# Altium schematic symbol library Converter_DCDC.SchLib: 544 symbols (part 1 of 6)
Pins are listed as number, name and electrical type; pins without a type are passive.

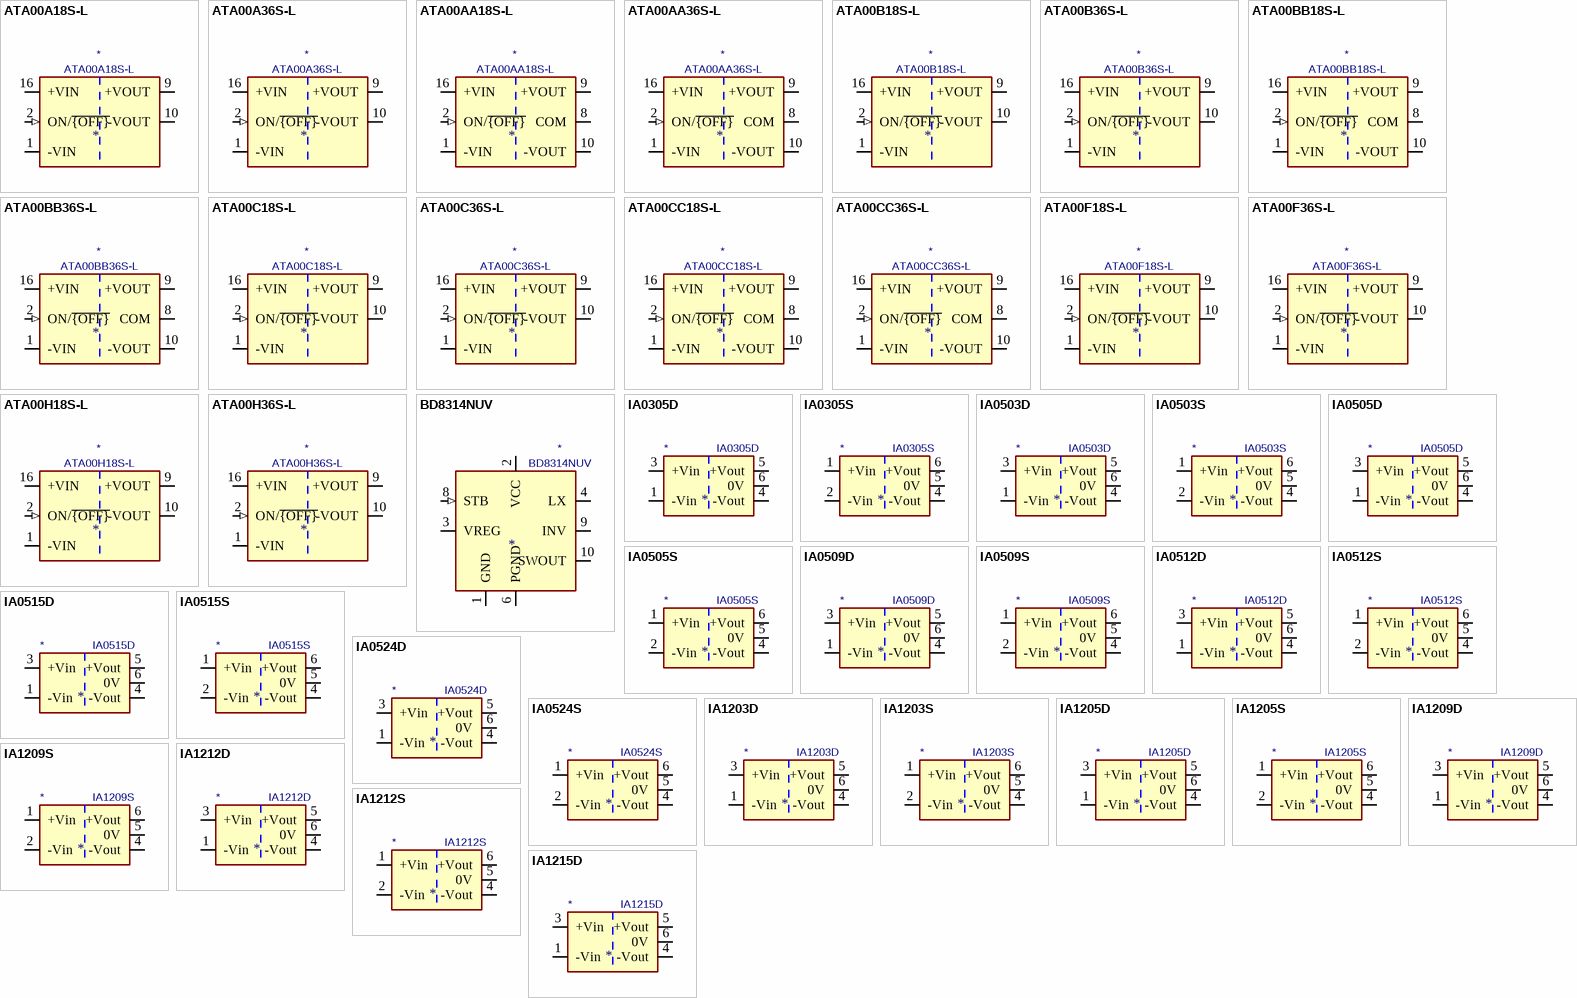
[diagram p0: symbols ATA00A18S-L to IA1215D]

## ATA00A18S-L
designator *  value ATA00A18S-L
ki_keywords: DC/DC converter single; ki_description: Artesyn 3W Isolated DC/DC Converter Module, 5V Output Voltage, 9-36V Input Voltage; ki_fp_filters: *Artesyn*ATA*SMD*; Footprint: Converter_DCDC:Converter_DCDC_Artesyn_ATA_SMD; Supplier: https://www.artesyn.com/power/assets/ata_series_ds_01apr2015_79c25814fd.pdf
footprint Converter_DCDC_Artesyn_ATA_SMD
pins: 1 -VIN (power), 2 ON/~{{OFF}} (in), 7 NC (in) hidden, 8 NC (in) hidden, 9 +VOUT (power), 10 -VOUT (power), 16 +VIN (power)

## ATA00A36S-L
designator *  value ATA00A36S-L
ki_keywords: DC/DC converter single; ki_description: Artesyn 3W Isolated DC/DC Converter Module, 5V Output Voltage, 18-75V Input Voltage; ki_fp_filters: *Artesyn*ATA*SMD*; Footprint: Converter_DCDC:Converter_DCDC_Artesyn_ATA_SMD; Supplier: https://www.artesyn.com/power/assets/ata_series_ds_01apr2015_79c25814fd.pdf
footprint Converter_DCDC_Artesyn_ATA_SMD
pins: 1 -VIN (power), 2 ON/~{{OFF}} (in), 7 NC (in) hidden, 8 NC (in) hidden, 9 +VOUT (power), 10 -VOUT (power), 16 +VIN (power)

## ATA00AA18S-L
designator *  value ATA00AA18S-L
ki_keywords: DC/DC converter dual; ki_description: Artesyn 3W Isolated DC/DC Converter Module, ±5V Output Voltage, 9-36V Input Voltage; ki_fp_filters: *Artesyn*ATA*SMD*; Footprint: Converter_DCDC:Converter_DCDC_Artesyn_ATA_SMD; Supplier: https://www.artesyn.com/power/assets/ata_series_ds_01apr2015_79c25814fd.pdf
footprint Converter_DCDC_Artesyn_ATA_SMD
pins: 1 -VIN (power), 2 ON/~{{OFF}} (in), 7 NC (in) hidden, 8 COM (power), 9 +VOUT (power), 10 -VOUT (power), 16 +VIN (power)

## ATA00AA36S-L
designator *  value ATA00AA36S-L
ki_keywords: DC/DC converter dual; ki_description: Artesyn 3W Isolated DC/DC Converter Module, ±5V Output Voltage, 18-75V Input Voltage; ki_fp_filters: *Artesyn*ATA*SMD*; Footprint: Converter_DCDC:Converter_DCDC_Artesyn_ATA_SMD; Supplier: https://www.artesyn.com/power/assets/ata_series_ds_01apr2015_79c25814fd.pdf
footprint Converter_DCDC_Artesyn_ATA_SMD
pins: 1 -VIN (power), 2 ON/~{{OFF}} (in), 7 NC (in) hidden, 8 COM (power), 9 +VOUT (power), 10 -VOUT (power), 16 +VIN (power)

## ATA00B18S-L
designator *  value ATA00B18S-L
ki_keywords: DC/DC converter single; ki_description: Artesyn 3W Isolated DC/DC Converter Module, 12V Output Voltage, 9-36V Input Voltage; ki_fp_filters: *Artesyn*ATA*SMD*; Footprint: Converter_DCDC:Converter_DCDC_Artesyn_ATA_SMD; Supplier: https://www.artesyn.com/power/assets/ata_series_ds_01apr2015_79c25814fd.pdf
footprint Converter_DCDC_Artesyn_ATA_SMD
pins: 1 -VIN (power), 2 ON/~{{OFF}} (in), 7 NC (in) hidden, 8 NC (in) hidden, 9 +VOUT (power), 10 -VOUT (power), 16 +VIN (power)

## ATA00B36S-L
designator *  value ATA00B36S-L
ki_keywords: DC/DC converter single; ki_description: Artesyn 3W Isolated DC/DC Converter Module, 12V Output Voltage, 18-75V Input Voltage; ki_fp_filters: *Artesyn*ATA*SMD*; Footprint: Converter_DCDC:Converter_DCDC_Artesyn_ATA_SMD; Supplier: https://www.artesyn.com/power/assets/ata_series_ds_01apr2015_79c25814fd.pdf
footprint Converter_DCDC_Artesyn_ATA_SMD
pins: 1 -VIN (power), 2 ON/~{{OFF}} (in), 7 NC (in) hidden, 8 NC (in) hidden, 9 +VOUT (power), 10 -VOUT (power), 16 +VIN (power)

## ATA00BB18S-L
designator *  value ATA00BB18S-L
ki_keywords: DC/DC converter dual; ki_description: Artesyn 3W Isolated DC/DC Converter Module, ±12V Output Voltage, 9-36V Input Voltage; ki_fp_filters: *Artesyn*ATA*SMD*; Footprint: Converter_DCDC:Converter_DCDC_Artesyn_ATA_SMD; Supplier: https://www.artesyn.com/power/assets/ata_series_ds_01apr2015_79c25814fd.pdf
footprint Converter_DCDC_Artesyn_ATA_SMD
pins: 1 -VIN (power), 2 ON/~{{OFF}} (in), 7 NC (in) hidden, 8 COM (power), 9 +VOUT (power), 10 -VOUT (power), 16 +VIN (power)

## ATA00BB36S-L
designator *  value ATA00BB36S-L
ki_keywords: DC/DC converter dual; ki_description: Artesyn 3W Isolated DC/DC Converter Module, ±12V Output Voltage, 18-75V Input Voltage; ki_fp_filters: *Artesyn*ATA*SMD*; Footprint: Converter_DCDC:Converter_DCDC_Artesyn_ATA_SMD; Supplier: https://www.artesyn.com/power/assets/ata_series_ds_01apr2015_79c25814fd.pdf
footprint Converter_DCDC_Artesyn_ATA_SMD
pins: 1 -VIN (power), 2 ON/~{{OFF}} (in), 7 NC (in) hidden, 8 COM (power), 9 +VOUT (power), 10 -VOUT (power), 16 +VIN (power)

## ATA00C18S-L
designator *  value ATA00C18S-L
ki_keywords: DC/DC converter single; ki_description: Artesyn 3W Isolated DC/DC Converter Module, 15V Output Voltage, 9-36V Input Voltage; ki_fp_filters: *Artesyn*ATA*SMD*; Footprint: Converter_DCDC:Converter_DCDC_Artesyn_ATA_SMD; Supplier: https://www.artesyn.com/power/assets/ata_series_ds_01apr2015_79c25814fd.pdf
footprint Converter_DCDC_Artesyn_ATA_SMD
pins: 1 -VIN (power), 2 ON/~{{OFF}} (in), 7 NC (in) hidden, 8 NC (in) hidden, 9 +VOUT (power), 10 -VOUT (power), 16 +VIN (power)

## ATA00C36S-L
designator *  value ATA00C36S-L
ki_keywords: DC/DC converter single; ki_description: Artesyn 3W Isolated DC/DC Converter Module, 15V Output Voltage, 18-75V Input Voltage; ki_fp_filters: *Artesyn*ATA*SMD*; Footprint: Converter_DCDC:Converter_DCDC_Artesyn_ATA_SMD; Supplier: https://www.artesyn.com/power/assets/ata_series_ds_01apr2015_79c25814fd.pdf
footprint Converter_DCDC_Artesyn_ATA_SMD
pins: 1 -VIN (power), 2 ON/~{{OFF}} (in), 7 NC (in) hidden, 8 NC (in) hidden, 9 +VOUT (power), 10 -VOUT (power), 16 +VIN (power)

## ATA00CC18S-L
designator *  value ATA00CC18S-L
ki_keywords: DC/DC converter dual; ki_description: Artesyn 3W Isolated DC/DC Converter Module, ±15V Output Voltage, 9-36V Input Voltage; ki_fp_filters: *Artesyn*ATA*SMD*; Footprint: Converter_DCDC:Converter_DCDC_Artesyn_ATA_SMD; Supplier: https://www.artesyn.com/power/assets/ata_series_ds_01apr2015_79c25814fd.pdf
footprint Converter_DCDC_Artesyn_ATA_SMD
pins: 1 -VIN (power), 2 ON/~{{OFF}} (in), 7 NC (in) hidden, 8 COM (power), 9 +VOUT (power), 10 -VOUT (power), 16 +VIN (power)

## ATA00CC36S-L
designator *  value ATA00CC36S-L
ki_keywords: DC/DC converter dual; ki_description: Artesyn 3W Isolated DC/DC Converter Module, ±15V Output Voltage, 18-75V Input Voltage; ki_fp_filters: *Artesyn*ATA*SMD*; Footprint: Converter_DCDC:Converter_DCDC_Artesyn_ATA_SMD; Supplier: https://www.artesyn.com/power/assets/ata_series_ds_01apr2015_79c25814fd.pdf
footprint Converter_DCDC_Artesyn_ATA_SMD
pins: 1 -VIN (power), 2 ON/~{{OFF}} (in), 7 NC (in) hidden, 8 COM (power), 9 +VOUT (power), 10 -VOUT (power), 16 +VIN (power)

## ATA00F18S-L
designator *  value ATA00F18S-L
ki_keywords: DC/DC converter single; ki_description: Artesyn 2W Isolated DC/DC Converter Module, 3.3V Output Voltage, 9-36V Input Voltage; ki_fp_filters: *Artesyn*ATA*SMD*; Footprint: Converter_DCDC:Converter_DCDC_Artesyn_ATA_SMD; Supplier: https://www.artesyn.com/power/assets/ata_series_ds_01apr2015_79c25814fd.pdf
footprint Converter_DCDC_Artesyn_ATA_SMD
pins: 1 -VIN (power), 2 ON/~{{OFF}} (in), 7 NC (in) hidden, 8 NC (in) hidden, 9 +VOUT (power), 10 -VOUT (power), 16 +VIN (power)

## ATA00F36S-L
designator *  value ATA00F36S-L
ki_keywords: DC/DC converter single; ki_description: Artesyn 2W Isolated DC/DC Converter Module, 3.3V Output Voltage, 18-75V Input Voltage; ki_fp_filters: *Artesyn*ATA*SMD*; Footprint: Converter_DCDC:Converter_DCDC_Artesyn_ATA_SMD; Supplier: https://www.artesyn.com/power/assets/ata_series_ds_01apr2015_79c25814fd.pdf
footprint Converter_DCDC_Artesyn_ATA_SMD
pins: 1 -VIN (power), 2 ON/~{{OFF}} (in), 7 NC (in) hidden, 8 NC (in) hidden, 9 +VOUT (power), 10 -VOUT (power), 16 +VIN (power)

## ATA00H18S-L
designator *  value ATA00H18S-L
ki_keywords: DC/DC converter single; ki_description: Artesyn 3W Isolated DC/DC Converter Module, 24V Output Voltage, 9-36V Input Voltage; ki_fp_filters: *Artesyn*ATA*SMD*; Footprint: Converter_DCDC:Converter_DCDC_Artesyn_ATA_SMD; Supplier: https://www.artesyn.com/power/assets/ata_series_ds_01apr2015_79c25814fd.pdf
footprint Converter_DCDC_Artesyn_ATA_SMD
pins: 1 -VIN (power), 2 ON/~{{OFF}} (in), 7 NC (in) hidden, 8 NC (in) hidden, 9 +VOUT (power), 10 -VOUT (power), 16 +VIN (power)

## ATA00H36S-L
designator *  value ATA00H36S-L
ki_keywords: DC/DC converter single; ki_description: Artesyn 3W Isolated DC/DC Converter Module, 24V Output Voltage, 18-75V Input Voltage; ki_fp_filters: *Artesyn*ATA*SMD*; Footprint: Converter_DCDC:Converter_DCDC_Artesyn_ATA_SMD; Supplier: https://www.artesyn.com/power/assets/ata_series_ds_01apr2015_79c25814fd.pdf
footprint Converter_DCDC_Artesyn_ATA_SMD
pins: 1 -VIN (power), 2 ON/~{{OFF}} (in), 7 NC (in) hidden, 8 NC (in) hidden, 9 +VOUT (power), 10 -VOUT (power), 16 +VIN (power)

## BD8314NUV
designator *  value BD8314NUV
ki_keywords: DCDC converter; ki_description: 3.0V to 12V, Integrated 2.5A MOSFET 1ch Boost Converter, VSON-10; ki_fp_filters: VSON*1EP*3x3mm*P0.5mm*; Footprint: Package_SON:VSON-10-1EP_3x3mm_P0.5mm_EP1.2x2mm; Supplier: http://rohmfs.rohm.com/en/products/databook/datasheet/ic/power/switching_regulator/bd8314nuv-e.pdf
footprint VSON-10-1EP_3x3mm_P0.5mm_EP1.2x2mm
pins: 1 GND (power), 2 VCC (power), 3 VREG, 4 LX, 5 LX hidden, 6 PGND (power), 7 PGND hidden, 8 STB (in), 9 INV, 10 SWOUT, 11 PGND hidden

## IA0305D
designator *  value IA0305D
ki_keywords: XP_POWER DC/DC isolated Converter module; ki_description: XP Power 1W, 1000 VDC Isolated DC/DC Converter Module, Dual Output Voltage ±5V, ±100mA, 3.3V Input Voltage, DIP; ki_fp_filters: *XP?POWER?IAxxxxD*; Footprint: Converter_DCDC:Converter_DCDC_XP_POWER-IAxxxxD_THT; Supplier: https://www.xppower.com/pdfs/SF_IA.pdf
footprint Converter_DCDC_XP_POWER-IAxxxxD_THT
pins: 1 -Vin (power), 2 NC (in) hidden, 3 +Vin (power), 4 -Vout (power), 5 +Vout (power), 6 0V (power)

## IA0305S
designator *  value IA0305S
ki_keywords: XP_POWER DC/DC isolated Converter module; ki_description: XP Power 1W, 1000 VDC Isolated DC/DC Converter Module, Dual Output Voltage ±5V, ±100mA, 3.3V Input Voltage, SIP; ki_fp_filters: *XP?POWER?IAxxxxS*; Footprint: Converter_DCDC:Converter_DCDC_XP_POWER-IAxxxxS_THT; Supplier: https://www.xppower.com/pdfs/SF_IA.pdf
footprint Converter_DCDC_XP_POWER-IAxxxxS_THT
pins: 1 +Vin (power), 2 -Vin (power), 4 -Vout (power), 5 0V (power), 6 +Vout (power)

## IA0503D
designator *  value IA0503D
ki_keywords: XP_POWER DC/DC isolated Converter module; ki_description: XP Power 1W, 1000 VDC Isolated DC/DC Converter Module, Dual Output Voltage ±3.3V, ±151mA, 5V Input Voltage, DIP; ki_fp_filters: *XP?POWER?IAxxxxD*; Footprint: Converter_DCDC:Converter_DCDC_XP_POWER-IAxxxxD_THT; Supplier: https://www.xppower.com/pdfs/SF_IA.pdf
footprint Converter_DCDC_XP_POWER-IAxxxxD_THT
pins: 1 -Vin (power), 2 NC (in) hidden, 3 +Vin (power), 4 -Vout (power), 5 +Vout (power), 6 0V (power)

## IA0503S
designator *  value IA0503S
ki_keywords: XP_POWER DC/DC isolated Converter module; ki_description: XP Power 1W, 1000 VDC Isolated DC/DC Converter Module, Dual Output Voltage ±3.3V, ±151mA, 5V Input Voltage, SIP; ki_fp_filters: *XP?POWER?IAxxxxS*; Footprint: Converter_DCDC:Converter_DCDC_XP_POWER-IAxxxxS_THT; Supplier: https://www.xppower.com/pdfs/SF_IA.pdf
footprint Converter_DCDC_XP_POWER-IAxxxxS_THT
pins: 1 +Vin (power), 2 -Vin (power), 4 -Vout (power), 5 0V (power), 6 +Vout (power)

## IA0505D
designator *  value IA0505D
ki_keywords: XP_POWER DC/DC isolated Converter module; ki_description: XP Power 1W, 1000 VDC Isolated DC/DC Converter Module, Dual Output Voltage ±5V, ±100mA, 5V Input Voltage, DIP; ki_fp_filters: *XP?POWER?IAxxxxD*; Footprint: Converter_DCDC:Converter_DCDC_XP_POWER-IAxxxxD_THT; Supplier: https://www.xppower.com/pdfs/SF_IA.pdf
footprint Converter_DCDC_XP_POWER-IAxxxxD_THT
pins: 1 -Vin (power), 2 NC (in) hidden, 3 +Vin (power), 4 -Vout (power), 5 +Vout (power), 6 0V (power)

## IA0505S
designator *  value IA0505S
ki_keywords: XP_POWER DC/DC isolated Converter module; ki_description: XP Power 1W, 1000 VDC Isolated DC/DC Converter Module, Dual Output Voltage ±5V, ±100mA, 5V Input Voltage, SIP; ki_fp_filters: *XP?POWER?IAxxxxS*; Footprint: Converter_DCDC:Converter_DCDC_XP_POWER-IAxxxxS_THT; Supplier: https://www.xppower.com/pdfs/SF_IA.pdf
footprint Converter_DCDC_XP_POWER-IAxxxxS_THT
pins: 1 +Vin (power), 2 -Vin (power), 4 -Vout (power), 5 0V (power), 6 +Vout (power)

## IA0509D
designator *  value IA0509D
ki_keywords: XP_POWER DC/DC isolated Converter module; ki_description: XP Power 1W, 1000 VDC Isolated DC/DC Converter Module, Dual Output Voltage ±9V, ±55mA, 5V Input Voltage, DIP; ki_fp_filters: *XP?POWER?IAxxxxD*; Footprint: Converter_DCDC:Converter_DCDC_XP_POWER-IAxxxxD_THT; Supplier: https://www.xppower.com/pdfs/SF_IA.pdf
footprint Converter_DCDC_XP_POWER-IAxxxxD_THT
pins: 1 -Vin (power), 2 NC (in) hidden, 3 +Vin (power), 4 -Vout (power), 5 +Vout (power), 6 0V (power)

## IA0509S
designator *  value IA0509S
ki_keywords: XP_POWER DC/DC isolated Converter module; ki_description: XP Power 1W, 1000 VDC Isolated DC/DC Converter Module, Dual Output Voltage ±9V, ±55mA, 5V Input Voltage, SIP; ki_fp_filters: *XP?POWER?IAxxxxS*; Footprint: Converter_DCDC:Converter_DCDC_XP_POWER-IAxxxxS_THT; Supplier: https://www.xppower.com/pdfs/SF_IA.pdf
footprint Converter_DCDC_XP_POWER-IAxxxxS_THT
pins: 1 +Vin (power), 2 -Vin (power), 4 -Vout (power), 5 0V (power), 6 +Vout (power)

## IA0512D
designator *  value IA0512D
ki_keywords: XP_POWER DC/DC isolated Converter module; ki_description: XP Power 1W, 1000 VDC Isolated DC/DC Converter Module, Dual Output Voltage ±12V, ±42mA, 5V Input Voltage, DIP; ki_fp_filters: *XP?POWER?IAxxxxD*; Footprint: Converter_DCDC:Converter_DCDC_XP_POWER-IAxxxxD_THT; Supplier: https://www.xppower.com/pdfs/SF_IA.pdf
footprint Converter_DCDC_XP_POWER-IAxxxxD_THT
pins: 1 -Vin (power), 2 NC (in) hidden, 3 +Vin (power), 4 -Vout (power), 5 +Vout (power), 6 0V (power)

## IA0512S
designator *  value IA0512S
ki_keywords: XP_POWER DC/DC isolated Converter module; ki_description: XP Power 1W, 1000 VDC Isolated DC/DC Converter Module, Dual Output Voltage ±12V, ±42mA, 5V Input Voltage, SIP; ki_fp_filters: *XP?POWER?IAxxxxS*; Footprint: Converter_DCDC:Converter_DCDC_XP_POWER-IAxxxxS_THT; Supplier: https://www.xppower.com/pdfs/SF_IA.pdf
footprint Converter_DCDC_XP_POWER-IAxxxxS_THT
pins: 1 +Vin (power), 2 -Vin (power), 4 -Vout (power), 5 0V (power), 6 +Vout (power)

## IA0515D
designator *  value IA0515D
ki_keywords: XP_POWER DC/DC isolated Converter module; ki_description: XP Power 1W, 1000 VDC Isolated DC/DC Converter Module, Dual Output Voltage ±15V, ±33mA, 5V Input Voltage, DIP; ki_fp_filters: *XP?POWER?IAxxxxD*; Footprint: Converter_DCDC:Converter_DCDC_XP_POWER-IAxxxxD_THT; Supplier: https://www.xppower.com/pdfs/SF_IA.pdf
footprint Converter_DCDC_XP_POWER-IAxxxxD_THT
pins: 1 -Vin (power), 2 NC (in) hidden, 3 +Vin (power), 4 -Vout (power), 5 +Vout (power), 6 0V (power)

## IA0515S
designator *  value IA0515S
ki_keywords: XP_POWER DC/DC isolated Converter module; ki_description: XP Power 1W, 1000 VDC Isolated DC/DC Converter Module, Dual Output Voltage ±15V, ±33mA, 5V Input Voltage, SIP; ki_fp_filters: *XP?POWER?IAxxxxS*; Footprint: Converter_DCDC:Converter_DCDC_XP_POWER-IAxxxxS_THT; Supplier: https://www.xppower.com/pdfs/SF_IA.pdf
footprint Converter_DCDC_XP_POWER-IAxxxxS_THT
pins: 1 +Vin (power), 2 -Vin (power), 4 -Vout (power), 5 0V (power), 6 +Vout (power)

## IA0524D
designator *  value IA0524D
ki_keywords: XP_POWER DC/DC isolated Converter module; ki_description: XP Power 1W, 1000 VDC Isolated DC/DC Converter Module, Dual Output Voltage ±24V, ±21mA, 5V Input Voltage, DIP; ki_fp_filters: *XP?POWER?IAxxxxD*; Footprint: Converter_DCDC:Converter_DCDC_XP_POWER-IAxxxxD_THT; Supplier: https://www.xppower.com/pdfs/SF_IA.pdf
footprint Converter_DCDC_XP_POWER-IAxxxxD_THT
pins: 1 -Vin (power), 2 NC (in) hidden, 3 +Vin (power), 4 -Vout (power), 5 +Vout (power), 6 0V (power)

## IA0524S
designator *  value IA0524S
ki_keywords: XP_POWER DC/DC isolated Converter module; ki_description: XP Power 1W, 1000 VDC Isolated DC/DC Converter Module, Dual Output Voltage ±24V, ±21mA, 5V Input Voltage, SIP; ki_fp_filters: *XP?POWER?IAxxxxS*; Footprint: Converter_DCDC:Converter_DCDC_XP_POWER-IAxxxxS_THT; Supplier: https://www.xppower.com/pdfs/SF_IA.pdf
footprint Converter_DCDC_XP_POWER-IAxxxxS_THT
pins: 1 +Vin (power), 2 -Vin (power), 4 -Vout (power), 5 0V (power), 6 +Vout (power)

## IA1203D
designator *  value IA1203D
ki_keywords: XP_POWER DC/DC isolated Converter module; ki_description: XP Power 1W, 1000 VDC Isolated DC/DC Converter Module, Dual Output Voltage ±3.3V, ±151mA, 12V Input Voltage, DIP; ki_fp_filters: *XP?POWER?IAxxxxD*; Footprint: Converter_DCDC:Converter_DCDC_XP_POWER-IAxxxxD_THT; Supplier: https://www.xppower.com/pdfs/SF_IA.pdf
footprint Converter_DCDC_XP_POWER-IAxxxxD_THT
pins: 1 -Vin (power), 2 NC (in) hidden, 3 +Vin (power), 4 -Vout (power), 5 +Vout (power), 6 0V (power)

## IA1203S
designator *  value IA1203S
ki_keywords: XP_POWER DC/DC isolated Converter module; ki_description: XP Power 1W, 1000 VDC Isolated DC/DC Converter Module, Dual Output Voltage ±3.3V, ±151mA, 12V Input Voltage, SIP; ki_fp_filters: *XP?POWER?IAxxxxS*; Footprint: Converter_DCDC:Converter_DCDC_XP_POWER-IAxxxxS_THT; Supplier: https://www.xppower.com/pdfs/SF_IA.pdf
footprint Converter_DCDC_XP_POWER-IAxxxxS_THT
pins: 1 +Vin (power), 2 -Vin (power), 4 -Vout (power), 5 0V (power), 6 +Vout (power)

## IA1205D
designator *  value IA1205D
ki_keywords: XP_POWER DC/DC isolated Converter module; ki_description: XP Power 1W, 1000 VDC Isolated DC/DC Converter Module, Dual Output Voltage ±5V, ±100mA, 12V Input Voltage, DIP; ki_fp_filters: *XP?POWER?IAxxxxD*; Footprint: Converter_DCDC:Converter_DCDC_XP_POWER-IAxxxxD_THT; Supplier: https://www.xppower.com/pdfs/SF_IA.pdf
footprint Converter_DCDC_XP_POWER-IAxxxxD_THT
pins: 1 -Vin (power), 2 NC (in) hidden, 3 +Vin (power), 4 -Vout (power), 5 +Vout (power), 6 0V (power)

## IA1205S
designator *  value IA1205S
ki_keywords: XP_POWER DC/DC isolated Converter module; ki_description: XP Power 1W, 1000 VDC Isolated DC/DC Converter Module, Dual Output Voltage ±5V, ±100mA, 12V Input Voltage, SIP; ki_fp_filters: *XP?POWER?IAxxxxS*; Footprint: Converter_DCDC:Converter_DCDC_XP_POWER-IAxxxxS_THT; Supplier: https://www.xppower.com/pdfs/SF_IA.pdf
footprint Converter_DCDC_XP_POWER-IAxxxxS_THT
pins: 1 +Vin (power), 2 -Vin (power), 4 -Vout (power), 5 0V (power), 6 +Vout (power)

## IA1209D
designator *  value IA1209D
ki_keywords: XP_POWER DC/DC isolated Converter module; ki_description: XP Power 1W, 1000 VDC Isolated DC/DC Converter Module, Dual Output Voltage ±9V, ±55mA, 12V Input Voltage, DIP; ki_fp_filters: *XP?POWER?IAxxxxD*; Footprint: Converter_DCDC:Converter_DCDC_XP_POWER-IAxxxxD_THT; Supplier: https://www.xppower.com/pdfs/SF_IA.pdf
footprint Converter_DCDC_XP_POWER-IAxxxxD_THT
pins: 1 -Vin (power), 2 NC (in) hidden, 3 +Vin (power), 4 -Vout (power), 5 +Vout (power), 6 0V (power)

## IA1209S
designator *  value IA1209S
ki_keywords: XP_POWER DC/DC isolated Converter module; ki_description: XP Power 1W, 1000 VDC Isolated DC/DC Converter Module, Dual Output Voltage ±9V, ±55mA, 12V Input Voltage, SIP; ki_fp_filters: *XP?POWER?IAxxxxS*; Footprint: Converter_DCDC:Converter_DCDC_XP_POWER-IAxxxxS_THT; Supplier: https://www.xppower.com/pdfs/SF_IA.pdf
footprint Converter_DCDC_XP_POWER-IAxxxxS_THT
pins: 1 +Vin (power), 2 -Vin (power), 4 -Vout (power), 5 0V (power), 6 +Vout (power)

## IA1212D
designator *  value IA1212D
ki_keywords: XP_POWER DC/DC isolated Converter module; ki_description: XP Power 1W, 1000 VDC Isolated DC/DC Converter Module, Dual Output Voltage ±12V, ±42mA, 12V Input Voltage, DIP; ki_fp_filters: *XP?POWER?IAxxxxD*; Footprint: Converter_DCDC:Converter_DCDC_XP_POWER-IAxxxxD_THT; Supplier: https://www.xppower.com/pdfs/SF_IA.pdf
footprint Converter_DCDC_XP_POWER-IAxxxxD_THT
pins: 1 -Vin (power), 2 NC (in) hidden, 3 +Vin (power), 4 -Vout (power), 5 +Vout (power), 6 0V (power)

## IA1212S
designator *  value IA1212S
ki_keywords: XP_POWER DC/DC isolated Converter module; ki_description: XP Power 1W, 1000 VDC Isolated DC/DC Converter Module, Dual Output Voltage ±12V, ±42mA, 12V Input Voltage, SIP; ki_fp_filters: *XP?POWER?IAxxxxS*; Footprint: Converter_DCDC:Converter_DCDC_XP_POWER-IAxxxxS_THT; Supplier: https://www.xppower.com/pdfs/SF_IA.pdf
footprint Converter_DCDC_XP_POWER-IAxxxxS_THT
pins: 1 +Vin (power), 2 -Vin (power), 4 -Vout (power), 5 0V (power), 6 +Vout (power)

## IA1215D
designator *  value IA1215D
ki_keywords: XP_POWER DC/DC isolated Converter module; ki_description: XP Power 1W, 1000 VDC Isolated DC/DC Converter Module, Dual Output Voltage ±15V, ±33mA, 12V Input Voltage, DIP; ki_fp_filters: *XP?POWER?IAxxxxD*; Footprint: Converter_DCDC:Converter_DCDC_XP_POWER-IAxxxxD_THT; Supplier: https://www.xppower.com/pdfs/SF_IA.pdf
footprint Converter_DCDC_XP_POWER-IAxxxxD_THT
pins: 1 -Vin (power), 2 NC (in) hidden, 3 +Vin (power), 4 -Vout (power), 5 +Vout (power), 6 0V (power)

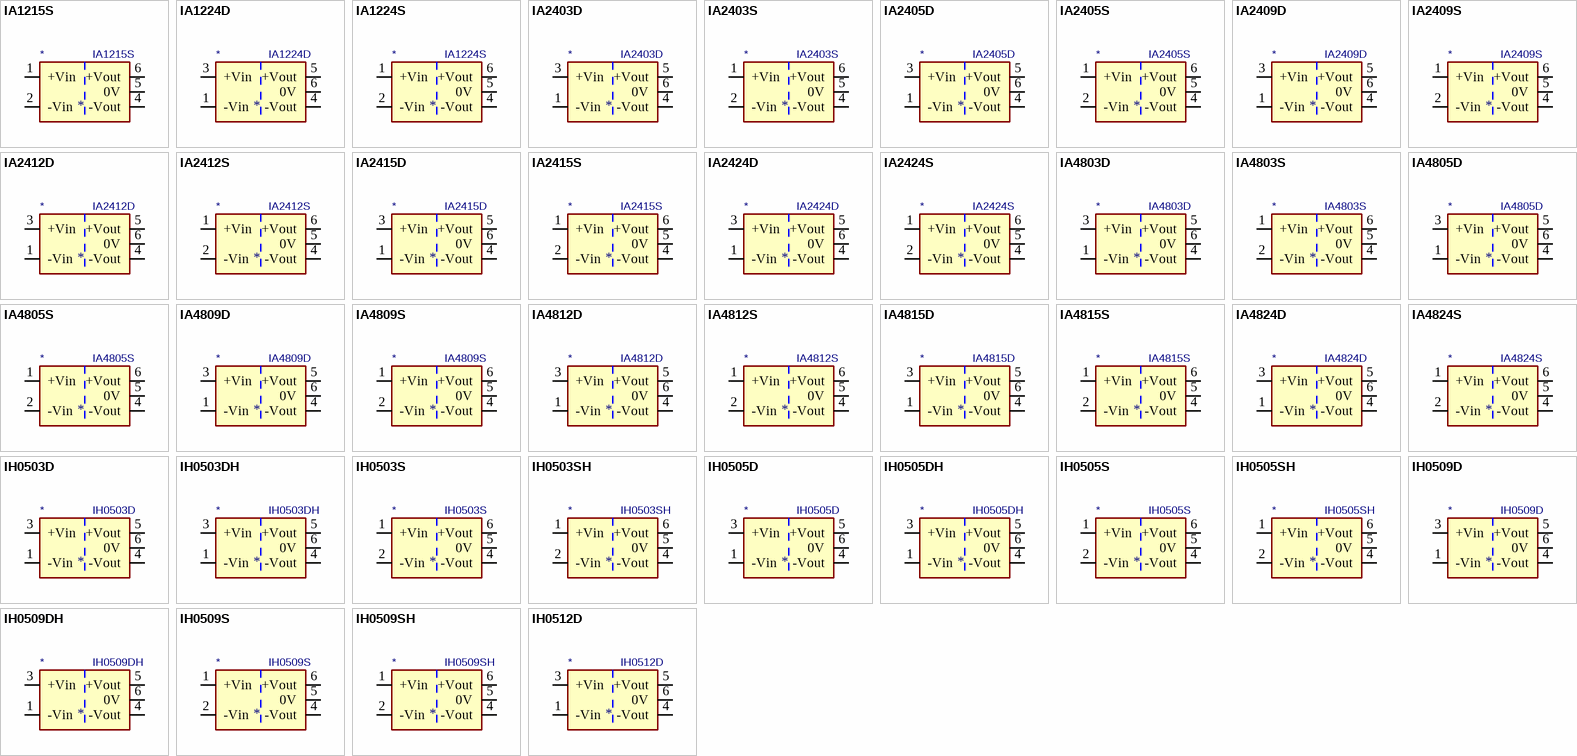
[diagram p1: symbols IA1215S to IH0512D]

## IA1215S
designator *  value IA1215S
ki_keywords: XP_POWER DC/DC isolated Converter module; ki_description: XP Power 1W, 1000 VDC Isolated DC/DC Converter Module, Dual Output Voltage ±15V, ±33mA, 12V Input Voltage, SIP; ki_fp_filters: *XP?POWER?IAxxxxS*; Footprint: Converter_DCDC:Converter_DCDC_XP_POWER-IAxxxxS_THT; Supplier: https://www.xppower.com/pdfs/SF_IA.pdf
footprint Converter_DCDC_XP_POWER-IAxxxxS_THT
pins: 1 +Vin (power), 2 -Vin (power), 4 -Vout (power), 5 0V (power), 6 +Vout (power)

## IA1224D
designator *  value IA1224D
ki_keywords: XP_POWER DC/DC isolated Converter module; ki_description: XP Power 1W, 1000 VDC Isolated DC/DC Converter Module, Dual Output Voltage ±24V, ±21mA, 12V Input Voltage, DIP; ki_fp_filters: *XP?POWER?IAxxxxD*; Footprint: Converter_DCDC:Converter_DCDC_XP_POWER-IAxxxxD_THT; Supplier: https://www.xppower.com/pdfs/SF_IA.pdf
footprint Converter_DCDC_XP_POWER-IAxxxxD_THT
pins: 1 -Vin (power), 2 NC (in) hidden, 3 +Vin (power), 4 -Vout (power), 5 +Vout (power), 6 0V (power)

## IA1224S
designator *  value IA1224S
ki_keywords: XP_POWER DC/DC isolated Converter module; ki_description: XP Power 1W, 1000 VDC Isolated DC/DC Converter Module, Dual Output Voltage ±24V, ±21mA, 12V Input Voltage, SIP; ki_fp_filters: *XP?POWER?IAxxxxS*; Footprint: Converter_DCDC:Converter_DCDC_XP_POWER-IAxxxxS_THT; Supplier: https://www.xppower.com/pdfs/SF_IA.pdf
footprint Converter_DCDC_XP_POWER-IAxxxxS_THT
pins: 1 +Vin (power), 2 -Vin (power), 4 -Vout (power), 5 0V (power), 6 +Vout (power)

## IA2403D
designator *  value IA2403D
ki_keywords: XP_POWER DC/DC isolated Converter module; ki_description: XP Power 1W, 1000 VDC Isolated DC/DC Converter Module, Dual Output Voltage ±3.3V, ±151mA, 24V Input Voltage, DIP; ki_fp_filters: *XP?POWER?IAxxxxD*; Footprint: Converter_DCDC:Converter_DCDC_XP_POWER-IAxxxxD_THT; Supplier: https://www.xppower.com/pdfs/SF_IA.pdf
footprint Converter_DCDC_XP_POWER-IAxxxxD_THT
pins: 1 -Vin (power), 2 NC (in) hidden, 3 +Vin (power), 4 -Vout (power), 5 +Vout (power), 6 0V (power)

## IA2403S
designator *  value IA2403S
ki_keywords: XP_POWER DC/DC isolated Converter module; ki_description: XP Power 1W, 1000 VDC Isolated DC/DC Converter Module, Dual Output Voltage ±3.3V, ±151mA, 24V Input Voltage, SIP; ki_fp_filters: *XP?POWER?IAxxxxS*; Footprint: Converter_DCDC:Converter_DCDC_XP_POWER-IAxxxxS_THT; Supplier: https://www.xppower.com/pdfs/SF_IA.pdf
footprint Converter_DCDC_XP_POWER-IAxxxxS_THT
pins: 1 +Vin (power), 2 -Vin (power), 4 -Vout (power), 5 0V (power), 6 +Vout (power)

## IA2405D
designator *  value IA2405D
ki_keywords: XP_POWER DC/DC isolated Converter module; ki_description: XP Power 1W, 1000 VDC Isolated DC/DC Converter Module, Dual Output Voltage ±5V, ±100mA, 24V Input Voltage, DIP; ki_fp_filters: *XP?POWER?IAxxxxD*; Footprint: Converter_DCDC:Converter_DCDC_XP_POWER-IAxxxxD_THT; Supplier: https://www.xppower.com/pdfs/SF_IA.pdf
footprint Converter_DCDC_XP_POWER-IAxxxxD_THT
pins: 1 -Vin (power), 2 NC (in) hidden, 3 +Vin (power), 4 -Vout (power), 5 +Vout (power), 6 0V (power)

## IA2405S
designator *  value IA2405S
ki_keywords: XP_POWER DC/DC isolated Converter module; ki_description: XP Power 1W, 1000 VDC Isolated DC/DC Converter Module, Dual Output Voltage ±5V, ±100mA, 24V Input Voltage, SIP; ki_fp_filters: *XP?POWER?IAxxxxS*; Footprint: Converter_DCDC:Converter_DCDC_XP_POWER-IAxxxxS_THT; Supplier: https://www.xppower.com/pdfs/SF_IA.pdf
footprint Converter_DCDC_XP_POWER-IAxxxxS_THT
pins: 1 +Vin (power), 2 -Vin (power), 4 -Vout (power), 5 0V (power), 6 +Vout (power)

## IA2409D
designator *  value IA2409D
ki_keywords: XP_POWER DC/DC isolated Converter module; ki_description: XP Power 1W, 1000 VDC Isolated DC/DC Converter Module, Dual Output Voltage ±9V, ±55mA, 24V Input Voltage, DIP; ki_fp_filters: *XP?POWER?IAxxxxD*; Footprint: Converter_DCDC:Converter_DCDC_XP_POWER-IAxxxxD_THT; Supplier: https://www.xppower.com/pdfs/SF_IA.pdf
footprint Converter_DCDC_XP_POWER-IAxxxxD_THT
pins: 1 -Vin (power), 2 NC (in) hidden, 3 +Vin (power), 4 -Vout (power), 5 +Vout (power), 6 0V (power)

## IA2409S
designator *  value IA2409S
ki_keywords: XP_POWER DC/DC isolated Converter module; ki_description: XP Power 1W, 1000 VDC Isolated DC/DC Converter Module, Dual Output Voltage ±9V, ±55mA, 24V Input Voltage, SIP; ki_fp_filters: *XP?POWER?IAxxxxS*; Footprint: Converter_DCDC:Converter_DCDC_XP_POWER-IAxxxxS_THT; Supplier: https://www.xppower.com/pdfs/SF_IA.pdf
footprint Converter_DCDC_XP_POWER-IAxxxxS_THT
pins: 1 +Vin (power), 2 -Vin (power), 4 -Vout (power), 5 0V (power), 6 +Vout (power)

## IA2412D
designator *  value IA2412D
ki_keywords: XP_POWER DC/DC isolated Converter module; ki_description: XP Power 1W, 1000 VDC Isolated DC/DC Converter Module, Dual Output Voltage ±12V, ±42mA, 24V Input Voltage, DIP; ki_fp_filters: *XP?POWER?IAxxxxD*; Footprint: Converter_DCDC:Converter_DCDC_XP_POWER-IAxxxxD_THT; Supplier: https://www.xppower.com/pdfs/SF_IA.pdf
footprint Converter_DCDC_XP_POWER-IAxxxxD_THT
pins: 1 -Vin (power), 2 NC (in) hidden, 3 +Vin (power), 4 -Vout (power), 5 +Vout (power), 6 0V (power)

## IA2412S
designator *  value IA2412S
ki_keywords: XP_POWER DC/DC isolated Converter module; ki_description: XP Power 1W, 1000 VDC Isolated DC/DC Converter Module, Dual Output Voltage ±12V, ±42mA, 24V Input Voltage, SIP; ki_fp_filters: *XP?POWER?IAxxxxS*; Footprint: Converter_DCDC:Converter_DCDC_XP_POWER-IAxxxxS_THT; Supplier: https://www.xppower.com/pdfs/SF_IA.pdf
footprint Converter_DCDC_XP_POWER-IAxxxxS_THT
pins: 1 +Vin (power), 2 -Vin (power), 4 -Vout (power), 5 0V (power), 6 +Vout (power)

## IA2415D
designator *  value IA2415D
ki_keywords: XP_POWER DC/DC isolated Converter module; ki_description: XP Power 1W, 1000 VDC Isolated DC/DC Converter Module, Dual Output Voltage ±15V, ±33mA, 24V Input Voltage, DIP; ki_fp_filters: *XP?POWER?IAxxxxD*; Footprint: Converter_DCDC:Converter_DCDC_XP_POWER-IAxxxxD_THT; Supplier: https://www.xppower.com/pdfs/SF_IA.pdf
footprint Converter_DCDC_XP_POWER-IAxxxxD_THT
pins: 1 -Vin (power), 2 NC (in) hidden, 3 +Vin (power), 4 -Vout (power), 5 +Vout (power), 6 0V (power)

## IA2415S
designator *  value IA2415S
ki_keywords: XP_POWER DC/DC isolated Converter module; ki_description: XP Power 1W, 1000 VDC Isolated DC/DC Converter Module, Dual Output Voltage ±15V, ±33mA, 24V Input Voltage, SIP; ki_fp_filters: *XP?POWER?IAxxxxS*; Footprint: Converter_DCDC:Converter_DCDC_XP_POWER-IAxxxxS_THT; Supplier: https://www.xppower.com/pdfs/SF_IA.pdf
footprint Converter_DCDC_XP_POWER-IAxxxxS_THT
pins: 1 +Vin (power), 2 -Vin (power), 4 -Vout (power), 5 0V (power), 6 +Vout (power)

## IA2424D
designator *  value IA2424D
ki_keywords: XP_POWER DC/DC isolated Converter module; ki_description: XP Power 1W, 1000 VDC Isolated DC/DC Converter Module, Dual Output Voltage ±24V, ±21mA, 24V Input Voltage, DIP; ki_fp_filters: *XP?POWER?IAxxxxD*; Footprint: Converter_DCDC:Converter_DCDC_XP_POWER-IAxxxxD_THT; Supplier: https://www.xppower.com/pdfs/SF_IA.pdf
footprint Converter_DCDC_XP_POWER-IAxxxxD_THT
pins: 1 -Vin (power), 2 NC (in) hidden, 3 +Vin (power), 4 -Vout (power), 5 +Vout (power), 6 0V (power)

## IA2424S
designator *  value IA2424S
ki_keywords: XP_POWER DC/DC isolated Converter module; ki_description: XP Power 1W, 1000 VDC Isolated DC/DC Converter Module, Dual Output Voltage ±24V, ±21mA, 24V Input Voltage, SIP; ki_fp_filters: *XP?POWER?IAxxxxS*; Footprint: Converter_DCDC:Converter_DCDC_XP_POWER-IAxxxxS_THT; Supplier: https://www.xppower.com/pdfs/SF_IA.pdf
footprint Converter_DCDC_XP_POWER-IAxxxxS_THT
pins: 1 +Vin (power), 2 -Vin (power), 4 -Vout (power), 5 0V (power), 6 +Vout (power)

## IA4803D
designator *  value IA4803D
ki_keywords: XP_POWER DC/DC isolated Converter module; ki_description: XP Power 1W, 1000 VDC Isolated DC/DC Converter Module, Dual Output Voltage ±3.3V, ±151mA, 48V Input Voltage, DIP; ki_fp_filters: *XP?POWER?IA48xxD*; Footprint: Converter_DCDC:Converter_DCDC_XP_POWER-IA48xxD_THT; Supplier: https://www.xppower.com/pdfs/SF_IA.pdf
footprint Converter_DCDC_XP_POWER-IA48xxD_THT
pins: 1 -Vin (power), 2 NC (in) hidden, 3 +Vin (power), 4 -Vout (power), 5 +Vout (power), 6 0V (power)

## IA4803S
designator *  value IA4803S
ki_keywords: XP_POWER DC/DC isolated Converter module; ki_description: XP Power 1W, 1000 VDC Isolated DC/DC Converter Module, Dual Output Voltage ±3.3V, ±151mA, 48V Input Voltage, SIP; ki_fp_filters: *XP?POWER?IA48xxS*; Footprint: Converter_DCDC:Converter_DCDC_XP_POWER-IA48xxS_THT; Supplier: https://www.xppower.com/pdfs/SF_IA.pdf
footprint Converter_DCDC_XP_POWER-IA48xxS_THT
pins: 1 +Vin (power), 2 -Vin (power), 4 -Vout (power), 5 0V (power), 6 +Vout (power)

## IA4805D
designator *  value IA4805D
ki_keywords: XP_POWER DC/DC isolated Converter module; ki_description: XP Power 1W, 1000 VDC Isolated DC/DC Converter Module, Dual Output Voltage ±5V, ±100mA, 48V Input Voltage, DIP; ki_fp_filters: *XP?POWER?IA48xxD*; Footprint: Converter_DCDC:Converter_DCDC_XP_POWER-IA48xxD_THT; Supplier: https://www.xppower.com/pdfs/SF_IA.pdf
footprint Converter_DCDC_XP_POWER-IA48xxD_THT
pins: 1 -Vin (power), 2 NC (in) hidden, 3 +Vin (power), 4 -Vout (power), 5 +Vout (power), 6 0V (power)

## IA4805S
designator *  value IA4805S
ki_keywords: XP_POWER DC/DC isolated Converter module; ki_description: XP Power 1W, 1000 VDC Isolated DC/DC Converter Module, Dual Output Voltage ±5V, ±100mA, 48V Input Voltage, SIP; ki_fp_filters: *XP?POWER?IA48xxS*; Footprint: Converter_DCDC:Converter_DCDC_XP_POWER-IA48xxS_THT; Supplier: https://www.xppower.com/pdfs/SF_IA.pdf
footprint Converter_DCDC_XP_POWER-IA48xxS_THT
pins: 1 +Vin (power), 2 -Vin (power), 4 -Vout (power), 5 0V (power), 6 +Vout (power)

## IA4809D
designator *  value IA4809D
ki_keywords: XP_POWER DC/DC isolated Converter module; ki_description: XP Power 1W, 1000 VDC Isolated DC/DC Converter Module, Dual Output Voltage ±9V, ±55mA, 48V Input Voltage, DIP; ki_fp_filters: *XP?POWER?IA48xxD*; Footprint: Converter_DCDC:Converter_DCDC_XP_POWER-IA48xxD_THT; Supplier: https://www.xppower.com/pdfs/SF_IA.pdf
footprint Converter_DCDC_XP_POWER-IA48xxD_THT
pins: 1 -Vin (power), 2 NC (in) hidden, 3 +Vin (power), 4 -Vout (power), 5 +Vout (power), 6 0V (power)

## IA4809S
designator *  value IA4809S
ki_keywords: XP_POWER DC/DC isolated Converter module; ki_description: XP Power 1W, 1000 VDC Isolated DC/DC Converter Module, Dual Output Voltage ±9V, ±55mA, 48V Input Voltage, SIP; ki_fp_filters: *XP?POWER?IA48xxS*; Footprint: Converter_DCDC:Converter_DCDC_XP_POWER-IA48xxS_THT; Supplier: https://www.xppower.com/pdfs/SF_IA.pdf
footprint Converter_DCDC_XP_POWER-IA48xxS_THT
pins: 1 +Vin (power), 2 -Vin (power), 4 -Vout (power), 5 0V (power), 6 +Vout (power)

## IA4812D
designator *  value IA4812D
ki_keywords: XP_POWER DC/DC isolated Converter module; ki_description: XP Power 1W, 1000 VDC Isolated DC/DC Converter Module, Dual Output Voltage ±12V, ±42mA, 48V Input Voltage, DIP; ki_fp_filters: *XP?POWER?IA48xxD*; Footprint: Converter_DCDC:Converter_DCDC_XP_POWER-IA48xxD_THT; Supplier: https://www.xppower.com/pdfs/SF_IA.pdf
footprint Converter_DCDC_XP_POWER-IA48xxD_THT
pins: 1 -Vin (power), 2 NC (in) hidden, 3 +Vin (power), 4 -Vout (power), 5 +Vout (power), 6 0V (power)

## IA4812S
designator *  value IA4812S
ki_keywords: XP_POWER DC/DC isolated Converter module; ki_description: XP Power 1W, 1000 VDC Isolated DC/DC Converter Module, Dual Output Voltage ±12V, ±42mA, 48V Input Voltage, SIP; ki_fp_filters: *XP?POWER?IA48xxS*; Footprint: Converter_DCDC:Converter_DCDC_XP_POWER-IA48xxS_THT; Supplier: https://www.xppower.com/pdfs/SF_IA.pdf
footprint Converter_DCDC_XP_POWER-IA48xxS_THT
pins: 1 +Vin (power), 2 -Vin (power), 4 -Vout (power), 5 0V (power), 6 +Vout (power)

## IA4815D
designator *  value IA4815D
ki_keywords: XP_POWER DC/DC isolated Converter module; ki_description: XP Power 1W, 1000 VDC Isolated DC/DC Converter Module, Dual Output Voltage ±15V, ±33mA, 48V Input Voltage, DIP; ki_fp_filters: *XP?POWER?IA48xxD*; Footprint: Converter_DCDC:Converter_DCDC_XP_POWER-IA48xxD_THT; Supplier: https://www.xppower.com/pdfs/SF_IA.pdf
footprint Converter_DCDC_XP_POWER-IA48xxD_THT
pins: 1 -Vin (power), 2 NC (in) hidden, 3 +Vin (power), 4 -Vout (power), 5 +Vout (power), 6 0V (power)

## IA4815S
designator *  value IA4815S
ki_keywords: XP_POWER DC/DC isolated Converter module; ki_description: XP Power 1W, 1000 VDC Isolated DC/DC Converter Module, Dual Output Voltage ±15V, ±33mA, 48V Input Voltage, SIP; ki_fp_filters: *XP?POWER?IA48xxS*; Footprint: Converter_DCDC:Converter_DCDC_XP_POWER-IA48xxS_THT; Supplier: https://www.xppower.com/pdfs/SF_IA.pdf
footprint Converter_DCDC_XP_POWER-IA48xxS_THT
pins: 1 +Vin (power), 2 -Vin (power), 4 -Vout (power), 5 0V (power), 6 +Vout (power)

## IA4824D
designator *  value IA4824D
ki_keywords: XP_POWER DC/DC isolated Converter module; ki_description: XP Power 1W, 1000 VDC Isolated DC/DC Converter Module, Dual Output Voltage ±24V, ±21mA, 48V Input Voltage, DIP; ki_fp_filters: *XP?POWER?IA48xxD*; Footprint: Converter_DCDC:Converter_DCDC_XP_POWER-IA48xxD_THT; Supplier: https://www.xppower.com/pdfs/SF_IA.pdf
footprint Converter_DCDC_XP_POWER-IA48xxD_THT
pins: 1 -Vin (power), 2 NC (in) hidden, 3 +Vin (power), 4 -Vout (power), 5 +Vout (power), 6 0V (power)

## IA4824S
designator *  value IA4824S
ki_keywords: XP_POWER DC/DC isolated Converter module; ki_description: XP Power 1W, 1000 VDC Isolated DC/DC Converter Module, Dual Output Voltage ±24V, ±21mA, 48V Input Voltage, SIP; ki_fp_filters: *XP?POWER?IA48xxS*; Footprint: Converter_DCDC:Converter_DCDC_XP_POWER-IA48xxS_THT; Supplier: https://www.xppower.com/pdfs/SF_IA.pdf
footprint Converter_DCDC_XP_POWER-IA48xxS_THT
pins: 1 +Vin (power), 2 -Vin (power), 4 -Vout (power), 5 0V (power), 6 +Vout (power)

## IH0503D
designator *  value IH0503D
ki_keywords: XP_POWER DC/DC isolated Converter module; ki_description: XP Power 2W, 1000 VDC Isolated DC/DC Converter Module, Dual Output Voltage ±3.3V, ±200mA, 5V Input Voltage, DIP; ki_fp_filters: *XP?POWER?IHxxxxD*; Footprint: Converter_DCDC:Converter_DCDC_XP_POWER-IHxxxxD_THT; Supplier: https://www.xppower.com/pdfs/SF_IH.pdf
footprint Converter_DCDC_XP_POWER-IHxxxxD_THT
pins: 1 -Vin (power), 2 NC (in) hidden, 3 +Vin (power), 4 -Vout (power), 5 +Vout (power), 6 0V (power)

## IH0503DH
designator *  value IH0503DH
ki_keywords: XP_POWER DC/DC isolated Converter module; ki_description: XP Power 2W, 3000-6000 VDC Isolated DC/DC Converter Module, Dual Output Voltage ±3.3V, ±200mA, 5V Input Voltage, DIP; ki_fp_filters: *XP?POWER?IHxxxxDH*; Footprint: Converter_DCDC:Converter_DCDC_XP_POWER-IHxxxxDH_THT; Supplier: https://www.xppower.com/pdfs/SF_IH.pdf
footprint Converter_DCDC_XP_POWER-IHxxxxDH_THT
pins: 1 -Vin (power), 2 NC (in) hidden, 3 +Vin (power), 4 -Vout (power), 5 +Vout (power), 6 0V (power)

## IH0503S
designator *  value IH0503S
ki_keywords: XP_POWER DC/DC isolated Converter module; ki_description: XP Power 2W, 1000 VDC Isolated DC/DC Converter Module, Dual Output Voltage ±3.3V, ±200mA, 5V Input Voltage, SIP; ki_fp_filters: *XP?POWER?IHxxxxS*; Footprint: Converter_DCDC:Converter_DCDC_XP_POWER-IHxxxxS_THT; Supplier: https://www.xppower.com/pdfs/SF_IH.pdf
footprint Converter_DCDC_XP_POWER-IHxxxxS_THT
pins: 1 +Vin (power), 2 -Vin (power), 4 -Vout (power), 5 0V (power), 6 +Vout (power)

## IH0503SH
designator *  value IH0503SH
ki_keywords: XP_POWER DC/DC isolated Converter module; ki_description: XP Power 2W, 3000-6000 VDC Isolated DC/DC Converter Module, Dual Output Voltage ±3.3V, ±200mA, 5V Input Voltage, SIP; ki_fp_filters: *XP?POWER?IHxxxxSH*; Footprint: Converter_DCDC:Converter_DCDC_XP_POWER-IHxxxxSH_THT; Supplier: https://www.xppower.com/pdfs/SF_IH.pdf
footprint Converter_DCDC_XP_POWER-IHxxxxSH_THT
pins: 1 +Vin (power), 2 -Vin (power), 4 -Vout (power), 5 0V (power), 6 +Vout (power)

## IH0505D
designator *  value IH0505D
ki_keywords: XP_POWER DC/DC isolated Converter module; ki_description: XP Power 2W, 1000 VDC Isolated DC/DC Converter Module, Dual Output Voltage ±5V, ±200mA, 5V Input Voltage, DIP; ki_fp_filters: *XP?POWER?IHxxxxD*; Footprint: Converter_DCDC:Converter_DCDC_XP_POWER-IHxxxxD_THT; Supplier: https://www.xppower.com/pdfs/SF_IH.pdf
footprint Converter_DCDC_XP_POWER-IHxxxxD_THT
pins: 1 -Vin (power), 2 NC (in) hidden, 3 +Vin (power), 4 -Vout (power), 5 +Vout (power), 6 0V (power)

## IH0505DH
designator *  value IH0505DH
ki_keywords: XP_POWER DC/DC isolated Converter module; ki_description: XP Power 2W, 3000-6000 VDC Isolated DC/DC Converter Module, Dual Output Voltage ±5V, ±200mA, 5V Input Voltage, DIP; ki_fp_filters: *XP?POWER?IHxxxxDH*; Footprint: Converter_DCDC:Converter_DCDC_XP_POWER-IHxxxxDH_THT; Supplier: https://www.xppower.com/pdfs/SF_IH.pdf
footprint Converter_DCDC_XP_POWER-IHxxxxDH_THT
pins: 1 -Vin (power), 2 NC (in) hidden, 3 +Vin (power), 4 -Vout (power), 5 +Vout (power), 6 0V (power)

## IH0505S
designator *  value IH0505S
ki_keywords: XP_POWER DC/DC isolated Converter module; ki_description: XP Power 2W, 1000 VDC Isolated DC/DC Converter Module, Dual Output Voltage ±5V, ±200mA, 5V Input Voltage, SIP; ki_fp_filters: *XP?POWER?IHxxxxS*; Footprint: Converter_DCDC:Converter_DCDC_XP_POWER-IHxxxxS_THT; Supplier: https://www.xppower.com/pdfs/SF_IH.pdf
footprint Converter_DCDC_XP_POWER-IHxxxxS_THT
pins: 1 +Vin (power), 2 -Vin (power), 4 -Vout (power), 5 0V (power), 6 +Vout (power)

## IH0505SH
designator *  value IH0505SH
ki_keywords: XP_POWER DC/DC isolated Converter module; ki_description: XP Power 2W, 3000-6000 VDC Isolated DC/DC Converter Module, Dual Output Voltage ±5V, ±200mA, 5V Input Voltage, SIP; ki_fp_filters: *XP?POWER?IHxxxxSH*; Footprint: Converter_DCDC:Converter_DCDC_XP_POWER-IHxxxxSH_THT; Supplier: https://www.xppower.com/pdfs/SF_IH.pdf
footprint Converter_DCDC_XP_POWER-IHxxxxSH_THT
pins: 1 +Vin (power), 2 -Vin (power), 4 -Vout (power), 5 0V (power), 6 +Vout (power)

## IH0509D
designator *  value IH0509D
ki_keywords: XP_POWER DC/DC isolated Converter module; ki_description: XP Power 2W, 1000 VDC Isolated DC/DC Converter Module, Dual Output Voltage ±9V, ±111mA, 5V Input Voltage, DIP; ki_fp_filters: *XP?POWER?IHxxxxD*; Footprint: Converter_DCDC:Converter_DCDC_XP_POWER-IHxxxxD_THT; Supplier: https://www.xppower.com/pdfs/SF_IH.pdf
footprint Converter_DCDC_XP_POWER-IHxxxxD_THT
pins: 1 -Vin (power), 2 NC (in) hidden, 3 +Vin (power), 4 -Vout (power), 5 +Vout (power), 6 0V (power)

## IH0509DH
designator *  value IH0509DH
ki_keywords: XP_POWER DC/DC isolated Converter module; ki_description: XP Power 2W, 3000-6000 VDC Isolated DC/DC Converter Module, Dual Output Voltage ±9V, ±111mA, 5V Input Voltage, DIP; ki_fp_filters: *XP?POWER?IHxxxxDH*; Footprint: Converter_DCDC:Converter_DCDC_XP_POWER-IHxxxxDH_THT; Supplier: https://www.xppower.com/pdfs/SF_IH.pdf
footprint Converter_DCDC_XP_POWER-IHxxxxDH_THT
pins: 1 -Vin (power), 2 NC (in) hidden, 3 +Vin (power), 4 -Vout (power), 5 +Vout (power), 6 0V (power)

## IH0509S
designator *  value IH0509S
ki_keywords: XP_POWER DC/DC isolated Converter module; ki_description: XP Power 2W, 1000 VDC Isolated DC/DC Converter Module, Dual Output Voltage ±9V, ±111mA, 5V Input Voltage, SIP; ki_fp_filters: *XP?POWER?IHxxxxS*; Footprint: Converter_DCDC:Converter_DCDC_XP_POWER-IHxxxxS_THT; Supplier: https://www.xppower.com/pdfs/SF_IH.pdf
footprint Converter_DCDC_XP_POWER-IHxxxxS_THT
pins: 1 +Vin (power), 2 -Vin (power), 4 -Vout (power), 5 0V (power), 6 +Vout (power)

## IH0509SH
designator *  value IH0509SH
ki_keywords: XP_POWER DC/DC isolated Converter module; ki_description: XP Power 2W, 3000-6000 VDC Isolated DC/DC Converter Module, Dual Output Voltage ±9V, ±111mA, 5V Input Voltage, SIP; ki_fp_filters: *XP?POWER?IHxxxxSH*; Footprint: Converter_DCDC:Converter_DCDC_XP_POWER-IHxxxxSH_THT; Supplier: https://www.xppower.com/pdfs/SF_IH.pdf
footprint Converter_DCDC_XP_POWER-IHxxxxSH_THT
pins: 1 +Vin (power), 2 -Vin (power), 4 -Vout (power), 5 0V (power), 6 +Vout (power)

## IH0512D
designator *  value IH0512D
ki_keywords: XP_POWER DC/DC isolated Converter module; ki_description: XP Power 2W, 1000 VDC Isolated DC/DC Converter Module, Dual Output Voltage ±12V, ±84mA, 5V Input Voltage, DIP; ki_fp_filters: *XP?POWER?IHxxxxD*; Footprint: Converter_DCDC:Converter_DCDC_XP_POWER-IHxxxxD_THT; Supplier: https://www.xppower.com/pdfs/SF_IH.pdf
footprint Converter_DCDC_XP_POWER-IHxxxxD_THT
pins: 1 -Vin (power), 2 NC (in) hidden, 3 +Vin (power), 4 -Vout (power), 5 +Vout (power), 6 0V (power)

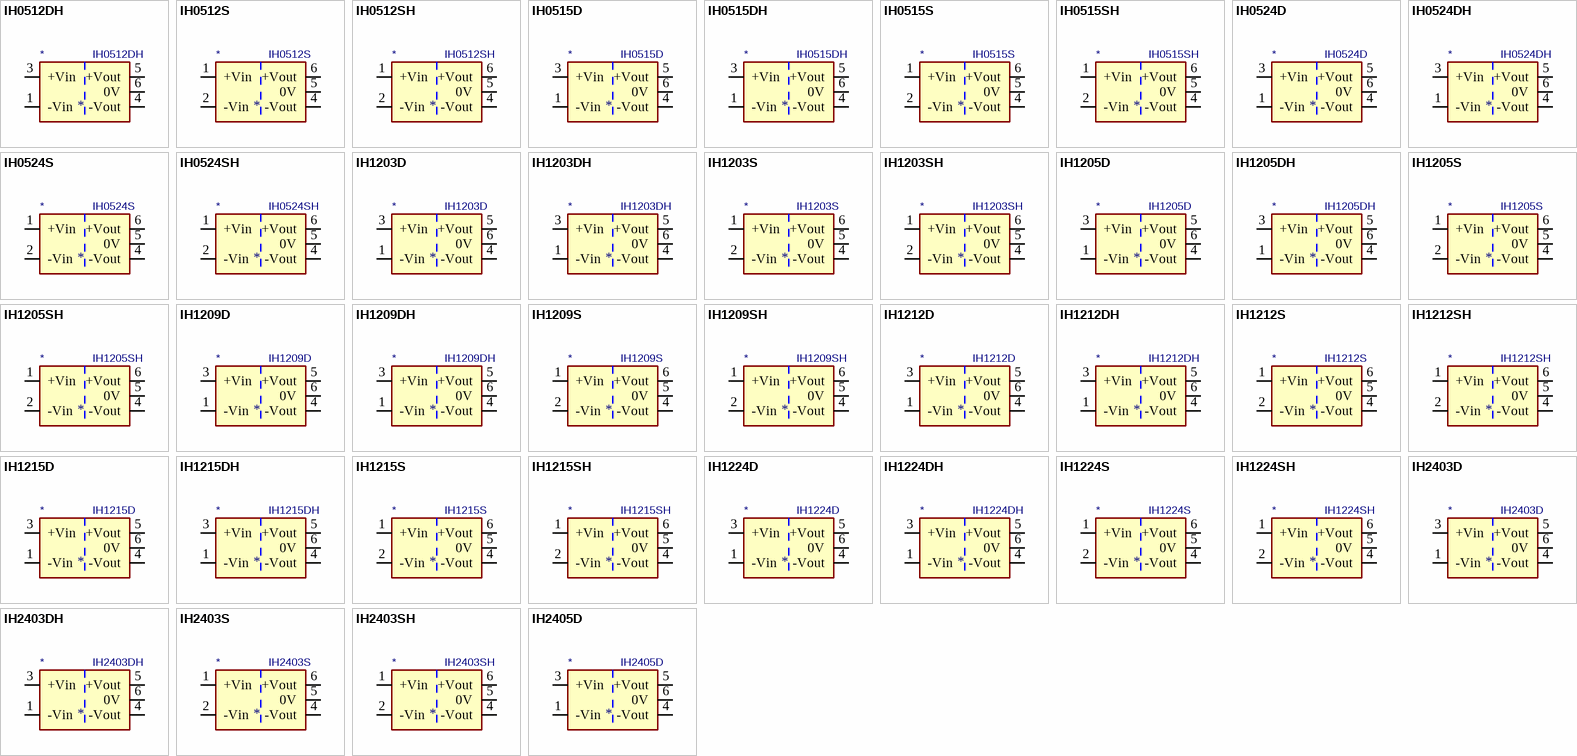
[diagram p2: symbols IH0512DH to IH2405D]

## IH0512DH
designator *  value IH0512DH
ki_keywords: XP_POWER DC/DC isolated Converter module; ki_description: XP Power 2W, 3000-6000 VDC Isolated DC/DC Converter Module, Dual Output Voltage ±12V, ±84mA, 5V Input Voltage, DIP; ki_fp_filters: *XP?POWER?IHxxxxDH*; Footprint: Converter_DCDC:Converter_DCDC_XP_POWER-IHxxxxDH_THT; Supplier: https://www.xppower.com/pdfs/SF_IH.pdf
footprint Converter_DCDC_XP_POWER-IHxxxxDH_THT
pins: 1 -Vin (power), 2 NC (in) hidden, 3 +Vin (power), 4 -Vout (power), 5 +Vout (power), 6 0V (power)

## IH0512S
designator *  value IH0512S
ki_keywords: XP_POWER DC/DC isolated Converter module; ki_description: XP Power 2W, 1000 VDC Isolated DC/DC Converter Module, Dual Output Voltage ±12V, ±84mA, 5V Input Voltage, SIP; ki_fp_filters: *XP?POWER?IHxxxxS*; Footprint: Converter_DCDC:Converter_DCDC_XP_POWER-IHxxxxS_THT; Supplier: https://www.xppower.com/pdfs/SF_IH.pdf
footprint Converter_DCDC_XP_POWER-IHxxxxS_THT
pins: 1 +Vin (power), 2 -Vin (power), 4 -Vout (power), 5 0V (power), 6 +Vout (power)

## IH0512SH
designator *  value IH0512SH
ki_keywords: XP_POWER DC/DC isolated Converter module; ki_description: XP Power 2W, 3000-6000 VDC Isolated DC/DC Converter Module, Dual Output Voltage ±12V, ±84mA, 5V Input Voltage, SIP; ki_fp_filters: *XP?POWER?IHxxxxSH*; Footprint: Converter_DCDC:Converter_DCDC_XP_POWER-IHxxxxSH_THT; Supplier: https://www.xppower.com/pdfs/SF_IH.pdf
footprint Converter_DCDC_XP_POWER-IHxxxxSH_THT
pins: 1 +Vin (power), 2 -Vin (power), 4 -Vout (power), 5 0V (power), 6 +Vout (power)

## IH0515D
designator *  value IH0515D
ki_keywords: XP_POWER DC/DC isolated Converter module; ki_description: XP Power 2W, 1000 VDC Isolated DC/DC Converter Module, Dual Output Voltage ±15V, ±66mA, 5V Input Voltage, DIP; ki_fp_filters: *XP?POWER?IHxxxxD*; Footprint: Converter_DCDC:Converter_DCDC_XP_POWER-IHxxxxD_THT; Supplier: https://www.xppower.com/pdfs/SF_IH.pdf
footprint Converter_DCDC_XP_POWER-IHxxxxD_THT
pins: 1 -Vin (power), 2 NC (in) hidden, 3 +Vin (power), 4 -Vout (power), 5 +Vout (power), 6 0V (power)

## IH0515DH
designator *  value IH0515DH
ki_keywords: XP_POWER DC/DC isolated Converter module; ki_description: XP Power 2W, 3000-6000 VDC Isolated DC/DC Converter Module, Dual Output Voltage ±15V, ±66mA, 5V Input Voltage, DIP; ki_fp_filters: *XP?POWER?IHxxxxDH*; Footprint: Converter_DCDC:Converter_DCDC_XP_POWER-IHxxxxDH_THT; Supplier: https://www.xppower.com/pdfs/SF_IH.pdf
footprint Converter_DCDC_XP_POWER-IHxxxxDH_THT
pins: 1 -Vin (power), 2 NC (in) hidden, 3 +Vin (power), 4 -Vout (power), 5 +Vout (power), 6 0V (power)

## IH0515S
designator *  value IH0515S
ki_keywords: XP_POWER DC/DC isolated Converter module; ki_description: XP Power 2W, 1000 VDC Isolated DC/DC Converter Module, Dual Output Voltage ±15V, ±66mA, 5V Input Voltage, SIP; ki_fp_filters: *XP?POWER?IHxxxxS*; Footprint: Converter_DCDC:Converter_DCDC_XP_POWER-IHxxxxS_THT; Supplier: https://www.xppower.com/pdfs/SF_IH.pdf
footprint Converter_DCDC_XP_POWER-IHxxxxS_THT
pins: 1 +Vin (power), 2 -Vin (power), 4 -Vout (power), 5 0V (power), 6 +Vout (power)

## IH0515SH
designator *  value IH0515SH
ki_keywords: XP_POWER DC/DC isolated Converter module; ki_description: XP Power 2W, 3000-6000 VDC Isolated DC/DC Converter Module, Dual Output Voltage ±15V, ±66mA, 5V Input Voltage, SIP; ki_fp_filters: *XP?POWER?IHxxxxSH*; Footprint: Converter_DCDC:Converter_DCDC_XP_POWER-IHxxxxSH_THT; Supplier: https://www.xppower.com/pdfs/SF_IH.pdf
footprint Converter_DCDC_XP_POWER-IHxxxxSH_THT
pins: 1 +Vin (power), 2 -Vin (power), 4 -Vout (power), 5 0V (power), 6 +Vout (power)

## IH0524D
designator *  value IH0524D
ki_keywords: XP_POWER DC/DC isolated Converter module; ki_description: XP Power 2W, 1000 VDC Isolated DC/DC Converter Module, Dual Output Voltage ±24V, ±42mA, 5V Input Voltage, DIP; ki_fp_filters: *XP?POWER?IHxxxxD*; Footprint: Converter_DCDC:Converter_DCDC_XP_POWER-IHxxxxD_THT; Supplier: https://www.xppower.com/pdfs/SF_IH.pdf
footprint Converter_DCDC_XP_POWER-IHxxxxD_THT
pins: 1 -Vin (power), 2 NC (in) hidden, 3 +Vin (power), 4 -Vout (power), 5 +Vout (power), 6 0V (power)

## IH0524DH
designator *  value IH0524DH
ki_keywords: XP_POWER DC/DC isolated Converter module; ki_description: XP Power 2W, 3000-6000 VDC Isolated DC/DC Converter Module, Dual Output Voltage ±24V, ±42mA, 5V Input Voltage, DIP; ki_fp_filters: *XP?POWER?IHxxxxDH*; Footprint: Converter_DCDC:Converter_DCDC_XP_POWER-IHxxxxDH_THT; Supplier: https://www.xppower.com/pdfs/SF_IH.pdf
footprint Converter_DCDC_XP_POWER-IHxxxxDH_THT
pins: 1 -Vin (power), 2 NC (in) hidden, 3 +Vin (power), 4 -Vout (power), 5 +Vout (power), 6 0V (power)

## IH0524S
designator *  value IH0524S
ki_keywords: XP_POWER DC/DC isolated Converter module; ki_description: XP Power 2W, 1000 VDC Isolated DC/DC Converter Module, Dual Output Voltage ±24V, ±42mA, 5V Input Voltage, SIP; ki_fp_filters: *XP?POWER?IHxxxxS*; Footprint: Converter_DCDC:Converter_DCDC_XP_POWER-IHxxxxS_THT; Supplier: https://www.xppower.com/pdfs/SF_IH.pdf
footprint Converter_DCDC_XP_POWER-IHxxxxS_THT
pins: 1 +Vin (power), 2 -Vin (power), 4 -Vout (power), 5 0V (power), 6 +Vout (power)

## IH0524SH
designator *  value IH0524SH
ki_keywords: XP_POWER DC/DC isolated Converter module; ki_description: XP Power 2W, 3000-6000 VDC Isolated DC/DC Converter Module, Dual Output Voltage ±24V, ±42mA, 5V Input Voltage, SIP; ki_fp_filters: *XP?POWER?IHxxxxSH*; Footprint: Converter_DCDC:Converter_DCDC_XP_POWER-IHxxxxSH_THT; Supplier: https://www.xppower.com/pdfs/SF_IH.pdf
footprint Converter_DCDC_XP_POWER-IHxxxxSH_THT
pins: 1 +Vin (power), 2 -Vin (power), 4 -Vout (power), 5 0V (power), 6 +Vout (power)

## IH1203D
designator *  value IH1203D
ki_keywords: XP_POWER DC/DC isolated Converter module; ki_description: XP Power 2W, 1000 VDC Isolated DC/DC Converter Module, Dual Output Voltage ±3.3V, ±200mA, 12V Input Voltage, DIP; ki_fp_filters: *XP?POWER?IHxxxxD*; Footprint: Converter_DCDC:Converter_DCDC_XP_POWER-IHxxxxD_THT; Supplier: https://www.xppower.com/pdfs/SF_IH.pdf
footprint Converter_DCDC_XP_POWER-IHxxxxD_THT
pins: 1 -Vin (power), 2 NC (in) hidden, 3 +Vin (power), 4 -Vout (power), 5 +Vout (power), 6 0V (power)

## IH1203DH
designator *  value IH1203DH
ki_keywords: XP_POWER DC/DC isolated Converter module; ki_description: XP Power 2W, 3000-6000 VDC Isolated DC/DC Converter Module, Dual Output Voltage ±3.3V, ±200mA, 12V Input Voltage, DIP; ki_fp_filters: *XP?POWER?IHxxxxDH*; Footprint: Converter_DCDC:Converter_DCDC_XP_POWER-IHxxxxDH_THT; Supplier: https://www.xppower.com/pdfs/SF_IH.pdf
footprint Converter_DCDC_XP_POWER-IHxxxxDH_THT
pins: 1 -Vin (power), 2 NC (in) hidden, 3 +Vin (power), 4 -Vout (power), 5 +Vout (power), 6 0V (power)

## IH1203S
designator *  value IH1203S
ki_keywords: XP_POWER DC/DC isolated Converter module; ki_description: XP Power 2W, 1000 VDC Isolated DC/DC Converter Module, Dual Output Voltage ±3.3V, ±200mA, 12V Input Voltage, SIP; ki_fp_filters: *XP?POWER?IHxxxxS*; Footprint: Converter_DCDC:Converter_DCDC_XP_POWER-IHxxxxS_THT; Supplier: https://www.xppower.com/pdfs/SF_IH.pdf
footprint Converter_DCDC_XP_POWER-IHxxxxS_THT
pins: 1 +Vin (power), 2 -Vin (power), 4 -Vout (power), 5 0V (power), 6 +Vout (power)

## IH1203SH
designator *  value IH1203SH
ki_keywords: XP_POWER DC/DC isolated Converter module; ki_description: XP Power 2W, 3000-6000 VDC Isolated DC/DC Converter Module, Dual Output Voltage ±3.3V, ±200mA, 12V Input Voltage, SIP; ki_fp_filters: *XP?POWER?IHxxxxSH*; Footprint: Converter_DCDC:Converter_DCDC_XP_POWER-IHxxxxSH_THT; Supplier: https://www.xppower.com/pdfs/SF_IH.pdf
footprint Converter_DCDC_XP_POWER-IHxxxxSH_THT
pins: 1 +Vin (power), 2 -Vin (power), 4 -Vout (power), 5 0V (power), 6 +Vout (power)

## IH1205D
designator *  value IH1205D
ki_keywords: XP_POWER DC/DC isolated Converter module; ki_description: XP Power 2W, 1000 VDC Isolated DC/DC Converter Module, Dual Output Voltage ±5V, ±200mA, 12V Input Voltage, DIP; ki_fp_filters: *XP?POWER?IHxxxxD*; Footprint: Converter_DCDC:Converter_DCDC_XP_POWER-IHxxxxD_THT; Supplier: https://www.xppower.com/pdfs/SF_IH.pdf
footprint Converter_DCDC_XP_POWER-IHxxxxD_THT
pins: 1 -Vin (power), 2 NC (in) hidden, 3 +Vin (power), 4 -Vout (power), 5 +Vout (power), 6 0V (power)